# Altium footprint library OltestLib_popadjuk.PcbLib: 113 footprints (part 1 of 8)
Each footprint in its own frame and in the unit in brackets; x right, y up, seen from the top. Pads: shape width x height; smd on the part's side, far side on the other; paste and mask are expansions set on the pad; w line width, h text height; cw(c..) or ccw(c..) is an arc to the next point about the centre after c.
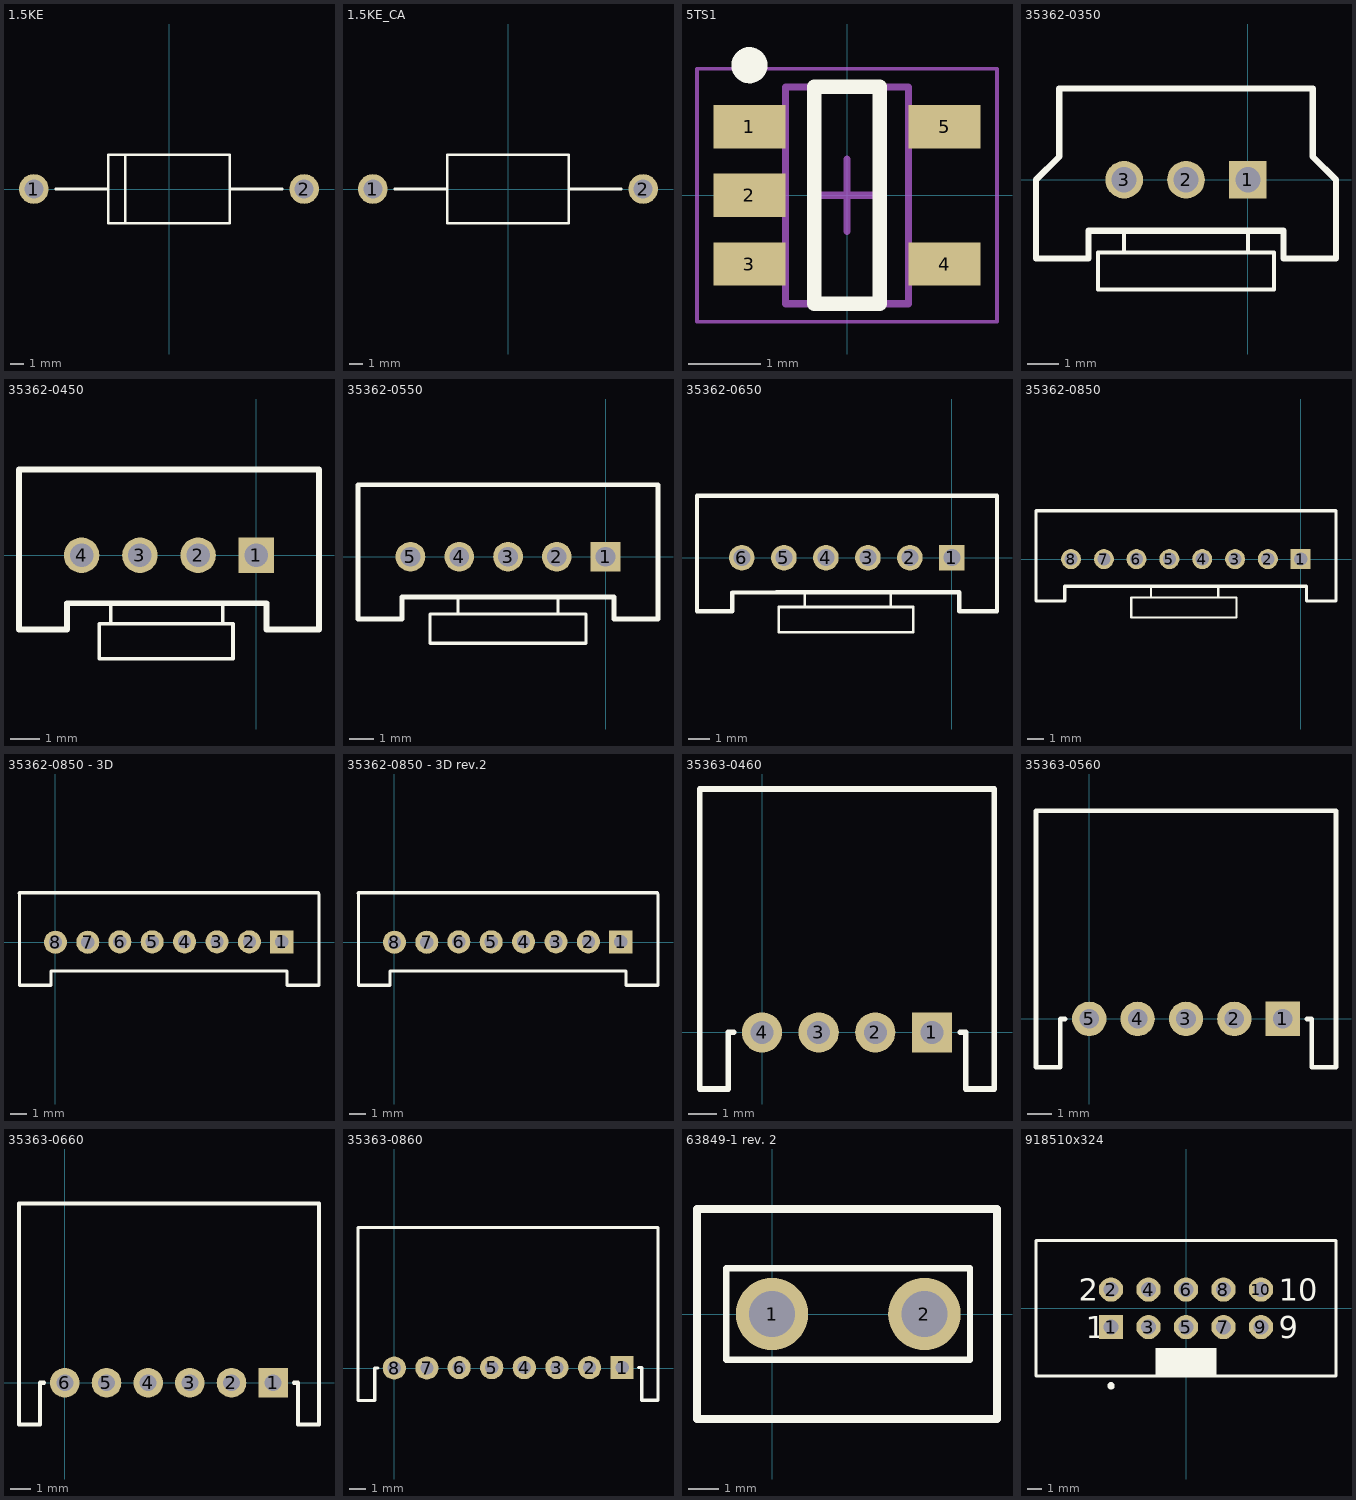
[diagram p0: the footprints below, top view; thin cyan lines are the x and y axes]

## 1.5KE [mm] "AXIAL, 2-Leads, Diameter 5.05mm"
height 7
pads (2):
  round 2.2 hole 1.4: 1(-10,0) 2(10,0)
Top Overlay:
  lines w0.2: -8.382,0 -4.5,0 ; -3.23,-2.525 -3.23,2.525 ; 4.5,0 8.382,0 ; -4.5,-2.525 4.5,-2.525 4.5,2.525 -4.5,2.525 -4.5,-2.525
3D body "do-201ad.STEP": height 6.55, standoff -2.5, extent -10.55,-2.55 10.55,2.55

## 1.5KE_CA [mm] "AXIAL, 2-Leads, Diameter 5.05mm"
height 7
pads (2):
  round 2.2 hole 1.4: 1(-10,0) 2(10,0)
Top Overlay:
  lines w0.2: -8.382,0 -4.5,0 ; 4.5,0 8.382,0 ; -4.5,-2.525 -4.5,2.525 4.5,2.525 4.5,-2.525 -4.5,-2.525
3D body "do-201ad.STEP": height 6.55, standoff -2.5, extent -10.55,-2.55 10.55,2.55

## 5TS1 [mm] "SOT23, 5-Leads, Body 2,90x2,80mm, Pitch 0,95mm, IPC Medium Density"
height 1
pads (5):
  rect 1x0.6 smd: 1(-1.35,0.95) 2(-1.35,0) 3(-1.35,-0.95) 4(1.35,-0.95) 5(1.35,0.95)
Top Overlay:
  circle w0.25: c-1.35,1.8 r0.125
  lines w0.2: -0.45,-1.5 -0.45,1.5 0.45,1.5 0.45,-1.5 -0.45,-1.5
Mechanical 13:
  lines w0.1: -0.85,-1.5 0.85,-1.5 0.85,1.5 -0.85,1.5 -0.85,-1.5
Mechanical 15:
  lines w0.05: -2.075,-1.75 2.075,-1.75 2.075,1.75 -2.075,1.75 -2.075,-1.75
  lines w0.1: -0.5,0 0.5,0 ; 0,-0.5 0,0.5
3D body: height 1, standoff 0.05, extent -0.85,-1.5 0.85,1.5

## 35362-0350 [mil]
pads (3):
  rect 48x48 / inner round 0 / far side rect 48x48 hole 32 mask+4.97: 1(0,0)
  round 48 / inner round 0 / far side round 48 hole 32 mask+4.97: 2(-78.73,0) 3(-157.47,0)
Top Overlay:
  lines w5: -157.47,-64.95 -157.47,-92.52 0,-92.52 0,-64.95 ; -190.93,-139.75 -190.93,-92.52 33.45,-92.52 33.45,-139.75 -190.93,-139.75
  lines w7.87: -157.47,-64.95 0,-64.95 ; -269.68,-100.38 -202.75,-100.38 -202.75,-64.95 45.27,-64.95 45.27,-100.38 112.2,-100.38 112.2,0 82.67,29.52 82.67,116.13 -240.15,116.13 -240.15,29.52 -269.68,0 -269.68,-100.38
3D body "353620350.stp": height 335.32, standoff -129.24, extent -269.94,-103.23 111.95,115.27

## 35362-0450 [mil]
pads (4):
  rect 48x48 / inner round 0 / far side rect 48x48 hole 32 mask+4.97: 1(0,0)
  round 48 / inner round 0 / far side round 48 hole 32 mask+4.97: 2(-78.73,0) 3(-157.47,0) 4(-236.22,0)
Top Overlay:
  lines w5: -212.58,-139.75 -212.58,-92.52 -31.48,-92.52 -31.48,-139.75 -212.58,-139.75 ; -196.85,-92.52 -45.27,-92.52 -45.27,-64.95 -196.85,-64.95 -196.85,-92.52
  lines w7.87: -320.85,-100.38 -255.9,-100.38 -255.9,-64.95 13.77,-64.95 13.77,-100.38 84.63,-100.38 84.63,116.13 -320.85,116.13 -320.85,-100.38
3D body "353620450.stp": height 335.32, standoff -129.24, extent -320.75,-102.23 84.76,116.28

## 35362-0550 [mil]
pads (5):
  rect 48x48 / inner round 0 / far side rect 48x48 hole 32 mask+4.97: 1(0,0)
  round 48 / inner round 0 / far side round 48 hole 32 mask+4.97: 2(-78.73,0) 3(-157.47,0) 4(-236.22,0) 5(-314.95,0)
Top Overlay:
  lines w5: -283.45,-139.75 -31.48,-139.75 -31.48,-92.52 -283.45,-92.52 -283.45,-139.75 ; -238.18,-92.52 -238.18,-64.95 -76.77,-64.95 -76.77,-92.52 -238.18,-92.52
  lines w7.87: -399.6,-100.38 -328.73,-100.38 -328.73,-64.95 13.77,-64.95 13.77,-100.38 84.63,-100.38 84.63,116.13 -399.6,116.13 -399.6,-100.38
3D body "353620550.stp": height 335.32, standoff -129.24, extent -399.12,-102.23 85.13,116.28

## 35362-0650 [mil]
pads (6):
  rect 48x48 / inner round 0 / far side rect 48x48 hole 32 mask+4.97: 1(0,0)
  round 48 / inner round 0 / far side round 48 hole 32 mask+4.97: 2(-78.73,0) 3(-157.47,0) 4(-236.22,0) 5(-314.95,0) 6(-394,0)
Top Overlay:
  lines w5: -324.45,-139.75 -72.48,-139.75 -72.48,-92.52 -324.45,-92.52 -324.45,-139.75 ; -276.18,-92.52 -114.77,-92.52 -114.77,-64.95 -276.18,-64.95 -276.18,-92.52
  lines w7.87: -478,-100.38 -478,116.13 84.63,116.13 84.63,-100.38 13.77,-100.38 13.77,-64.95 -328.73,-64.95 -412,-65 -412,-100.38 -478,-100.38
3D body "353620650.stp": height 335.32, standoff -129.24, extent -478.49,-102.23 84.5,116.28

## 35362-0850 [mil]
pads (8):
  rect 48x48 / inner round 0 / far side rect 48x48 hole 32 mask+4.97: 1(0,0)
  round 48 / inner round 0 / far side round 48 hole 32 mask+4.97: 2(-78.73,0) 3(-157.47,0) 4(-236.22,0) 5(-314.95,0) 6(-394,0) 7(-472,0) 8(-551,0)
Top Overlay:
  lines w5: -406.45,-139.75 -406.45,-92.52 -154.48,-92.52 -154.48,-139.75 -406.45,-139.75 ; -359.18,-92.52 -359.18,-64.95 -197.77,-64.95 -197.77,-92.52 -359.18,-92.52
  lines w7.87: -635,-100.38 -635,116 -399.6,116.13 84.63,116.13 84.63,-100.38 13.77,-100.38 13.77,-64.95 -328.73,-64.95 -566,-65 -566,-100.38 -635,-100.38

## 35362-0850 - 3D [mil] "2.00mm Pitch Sherlock™ Wire-to-Board Header, Vertical, with Positive Lock, 8 Circuits, with Kinked PC Tails, Naturalh Positive Lock, 8 Circuits"
pads (8):
  rect 56x56 / inner round 0 / far side rect 56x56 hole 32 mask+4.97: 1(550.2,0.98)
  round 56 / inner round 0 / far side round 56 hole 32 mask+4.97: 2(471.45,0.98) 3(392.71,0.98) 4(313.96,0.98) 5(235.23,0.98) 6(156.5,0.98) 7(78.73,0) 8(0,0)
Top Overlay:
  lines w7.87: -88.58,119.09 -87.61,120.06 155.51,120.06 549.21,120.06 639.76,120.06 ; -87.6,116.14 -87.6,-104.33 -10.83,-104.33 -10.83,-69.87 562.99,-69.89 562.99,-104.33 640.75,-104.33 640.75,117.11
3D body "353620850.stp": height 344.49, standoff -120.08, extent -83.66,-101.38 636.81,117.13

## 35362-0850 - 3D rev.2 [mil] "2.00mm Pitch Sherlock™ Wire-to-Board Header, Vertical, with Positive Lock, 8 Circuits, with Kinked PC Tails, Naturalh Positive Lock, 8 Circuits"
pads (8):
  rect 56x56 / inner round 0 / far side rect 56x56 hole 32 mask+4.97: 1(550.2,0.98)
  round 56 / inner round 0 / far side round 56 hole 32 mask+4.97: 2(471.45,0.98) 3(392.71,0.98) 4(313.96,0.98) 5(235.23,0.98) 6(156.5,0.98) 7(78.73,0) 8(0,0)
Top Overlay:
  lines w7.87: -88.58,119.09 -87.61,120.06 155.51,120.06 549.21,120.06 639.76,120.06 ; -87.6,116.14 -87.6,-104.33 -10.83,-104.33 -10.83,-69.87 562.99,-69.89 562.99,-104.33 640.75,-104.33 640.75,117.11
3D body "353620850.stp": height 344.49, standoff -120.08, extent -83.66,-101.38 636.81,117.13

## 35363-0460 [mil]
pads (4):
  rect 56x56 / inner round 0 / far side rect 56x56 hole 32 mask+4.97: 1(236.22,0)
  round 56 / inner round 0 / far side round 56 hole 32 mask+4.97: 2(157.47,0) 3(78.73,0) 4(0,0)
Top Overlay:
  lines w7.87: -39.37,0 -47.23,0 -47.23,-78.73 -86.6,-78.73 -86.6,338.57 0,338.57 236.2,338.57 ; 236.23,338.57 322.85,338.57 322.85,-78.73 283.48,-78.73 283.48,0 275.62,0

## 35363-0560 [mil]
pads (5):
  rect 56x56 / inner round 0 / far side rect 56x56 hole 32 mask+4.97: 1(314.95,0)
  round 56 / inner round 0 / far side round 56 hole 32 mask+4.97: 2(236.22,0) 3(157.47,0) 4(78.73,0) 5(0,0)
Top Overlay:
  lines w7.87: -39.37,0 -47.23,0 -47.23,-78.73 -86.6,-78.73 -86.6,338.57 0,338.57 314.93,338.57 401.58,338.57 401.58,-78.73 362.22,-78.73 362.22,0 354.35,0
3D body "353630560.stp": height 217.27, standoff -125.25, extent -84.12,-77.06 400.13,336.33

## 35363-0660 [mil]
pads (6):
  rect 56x56 / inner round 0 / far side rect 56x56 hole 32 mask+4.97: 1(393.7,0)
  round 56 / inner round 0 / far side round 56 hole 32 mask+4.97: 2(314.95,0) 3(236.22,0) 4(157.47,0) 5(78.73,0) 6(0,0)
Top Overlay:
  lines w7.87: -39.37,0 -47.23,0 -47.23,-78.73 -86.6,-78.73 -86.6,338.57 0,338.57 393.7,338.57 480.32,338.57 480.32,-78.73 440.95,-78.73 440.95,0 433.08,0

## 35363-0860 [mil] "2.00mm Pitch Sherlock™ Wire-to-Board Header, Right Angle, with Positive Lock, 8 Circuits"
pads (8):
  rect 56x56 / inner round 0 / far side rect 56x56 hole 32 mask+4.97: 1(550.2,0.98)
  round 56 / inner round 0 / far side round 56 hole 32 mask+4.97: 2(471.45,0.98) 3(392.71,0.98) 4(313.96,0.98) 5(235.23,0.98) 6(156.5,0.98) 7(78.73,0) 8(0,0)
Top Overlay:
  lines w7.87: -87.6,-77.75 -87.6,339.55 156.5,339.55 550.2,339.55 636.81,339.55 636.81,-77.75 597.45,-77.75 597.45,0.98 589.58,0.98 ; -86.6,-78.73 -47.23,-78.73 -47.23,0 -39.37,0
3D body "353630860.stp": height 226.38, standoff -116.14, extent -82.67,-78.74 637.8,334.65

## 63849-1 rev. 2 [mil]
height 400
pads (2):
  round 95 hole 60: 1(0,0) 2(200,0)
Top Overlay:
  lines w8: -60,-60 260,-60 260,60 -60,60 -60,-60
  lines w10: -98.43,-137.8 -98.43,137.8 295.28,137.8 295.28,-137.8 -98.43,-137.8
Mechanical 15:
  lines w1.97: -98.43,-137.8 -98.43,137.8 295.28,137.8 295.28,-137.8 -98.43,-137.8
3D body "c-63849-1-k-3d.stp": height 409, standoff -143, extent -56,-60 256,61.5

## 918510x324 [mm] "Connector; IDC, Low Profile Male Header, Thru-Hole; 10 Position; Vertical; Pitch 2.54 mm; Body 20.32 x 9.2 x 9.45 mm (LxWxH)"
height 9.45
pads (10):
  rect 1.65x1.65 hole 1: 1(-5.08,-1.27)
  round 1.65 hole 1: 2(-5.08,1.27) 3(-2.54,-1.27) 4(-2.54,1.27) 5(0,-1.27) 6(0,1.27) 7(2.54,-1.27) 8(2.54,1.27) 9(5.08,-1.27) 10(5.08,1.27)
Top Overlay:
  circle w0.25: c-5.08,-5.25 r0.125
  rectangle: -2.05,-4.6 2.05,-2.7
  lines w0.2: -10.16,-4.6 10.16,-4.6 10.16,4.6 -10.16,4.6 -10.16,-4.6
  text "9" at 6.28,-2.02 h1.5
  text "10" at 6.28,0.52 h1.5
  text "1" at -6.78,-2.02 h1.5
  text "2" at -7.28,0.52 h1.5